# Altium schematic symbol library SCH - DRIVER - LED - TI LM3424MH.SchLib: 1 symbol
Pins are listed as number, name and electrical type; pins without a type are passive.

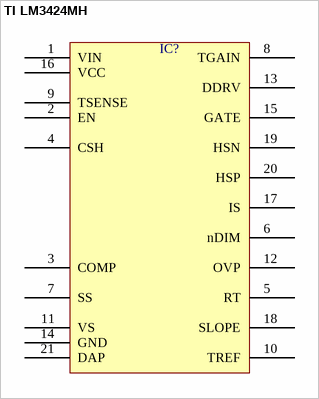
[diagram p0: symbol TI LM3424MH]

## TI LM3424MH
designator IC?  (value not drawn)
pins: 1 VIN, 2 EN, 3 COMP, 4 CSH, 5 RT, 6 nDIM, 7 SS, 8 TGAIN, 9 TSENSE, 10 TREF, 11 VS, 12 OVP, 13 DDRV, 14 GND, 15 GATE, 16 VCC, 17 IS, 18 SLOPE, 19 HSN, 20 HSP, 21 DAP